# EAGLE library part 658807713100 (library Wurth_Connectors_WR-BTB)
WR-BTB 0.80 mm Female Vertical SMT 7.75 Receptacle w. Chamfer KIND PROPERTIES: Pitch 0.8 mm Quality Class 30 Mating cycles MATERIAL PROPERTIES: Insulator Material LCP Insulator Flammability Rating UL94 V-0 Insulator Color Ivory Contact Copper Alloy Contact Plating Selective Gold Contact Type Stamped GENERAL PROPERTIES: Operating Temperature -55 °C up to +85 °C Compliance Lead free / RoHS ELECTRICAL PROPERTIES: Rated Current [1] 0.5 A Working Voltage 50 V (AC) Withstanding Voltage 500 V (AC) Contact Resistance 50 mΩ Insulation Resistance 100 MΩ PACKAGING PROPERTIES: Packaging Tape and Reel with Cap <https://www.we-online.com/catalog/media/o97332v209%20Family_WR-BTB_658807703040.jpg> Details see: https://www.we-online.com/katalog/en/em/BTB_0_80_FEMALE_SMT_VERTICAL_RECEPTACLE_H7_75_W_CHAMFER_658807713XXX Updated by Yingchun,Shan 2019-10-15 2019 (C) Würth Elektronik
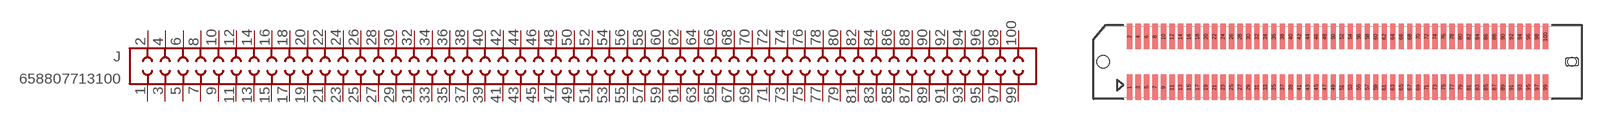
[diagram p6: symbol with the pads of 658807713100; footprint 658807713100]

Designator prefix J

## 658807713100 (DATASHEET-URL: https://www.we-online.com/catalog/datasheet/658807713100.pdf; GENDER: Female Receptacle; IR: 0.5A; PACKAGING: Tape and Reel with Cap; PART-NUMBER: 658807713100; PINS: 100; TYPE: Vertical; VALUE: 658807713100)  [658807713100]
1  1  pas
2  2  pas
3  3  pas
4  4  pas
5  5  pas
6  6  pas
7  7  pas
8  8  pas
9  9  pas
10  10  pas
11  11  pas
12  12  pas
13  13  pas
14  14  pas
15  15  pas
16  16  pas
17  17  pas
18  18  pas
19  19  pas
20  20  pas
21  21  pas
22  22  pas
23  23  pas
24  24  pas
25  25  pas
26  26  pas
27  27  pas
28  28  pas
29  29  pas
30  30  pas
31  31  pas
32  32  pas
33  33  pas
34  34  pas
35  35  pas
36  36  pas
37  37  pas
38  38  pas
39  39  pas
40  40  pas
41  41  pas
42  42  pas
43  43  pas
44  44  pas
45  45  pas
46  46  pas
47  47  pas
48  48  pas
49  49  pas
50  50  pas
51  51  pas
52  52  pas
53  53  pas
54  54  pas
55  55  pas
56  56  pas
57  57  pas
58  58  pas
59  59  pas
60  60  pas
61  61  pas
62  62  pas
63  63  pas
64  64  pas
65  65  pas
66  66  pas
67  67  pas
68  68  pas
69  69  pas
70  70  pas
71  71  pas
72  72  pas
73  73  pas
74  74  pas
75  75  pas
76  76  pas
77  77  pas
78  78  pas
79  79  pas
80  80  pas
81  81  pas
82  82  pas
83  83  pas
84  84  pas
85  85  pas
86  86  pas
87  87  pas
88  88  pas
89  89  pas
90  90  pas
91  91  pas
92  92  pas
93  93  pas
94  94  pas
95  95  pas
96  96  pas
97  97  pas
98  98  pas
99  99  pas
100  100  pas

## Footprint 658807713100 (pad centres in mm)
Con-BTB 0.80 mm Female Vertical SMT 7.75 Receptacle w. Chamfer 100 Pins
smd 0.5 x 2.4: 1 -19.6,-2.4; 2 -19.6,2.4; 3 -18.8,-2.4; 4 -18.8,2.4; 5 -18,-2.4; 6 -18,2.4; 7 -17.2,-2.4; 8 -17.2,2.4; 9 -16.4,-2.4; 10 -16.4,2.4; 11 -15.6,-2.4; 12 -15.6,2.4; 13 -14.8,-2.4; 14 -14.8,2.4; 15 -14,-2.4; 16 -14,2.4; 17 -13.2,-2.4; 18 -13.2,2.4; 19 -12.4,-2.4; 20 -12.4,2.4; 21 -11.6,-2.4; 22 -11.6,2.4; 23 -10.8,-2.4; 24 -10.8,2.4; 25 -10,-2.4; 26 -10,2.4; 27 -9.2,-2.4; 28 -9.2,2.4; 29 -8.4,-2.4; 30 -8.4,2.4; 31 -7.6,-2.4; 32 -7.6,2.4; 33 -6.8,-2.4; 34 -6.8,2.4; 35 -6,-2.4; 36 -6,2.4; 37 -5.2,-2.4; 38 -5.2,2.4; 39 -4.4,-2.4; 40 -4.4,2.4; 41 -3.6,-2.4; 42 -3.6,2.4; 43 -2.8,-2.4; 44 -2.8,2.4; 45 -2,-2.4; 46 -2,2.4; 47 -1.2,-2.4; 48 -1.2,2.4; 49 -0.4,-2.4; 50 -0.4,2.4; 51 0.4,-2.4; 52 0.4,2.4; 53 1.2,-2.4; 54 1.2,2.4; 55 2,-2.4; 56 2,2.4; 57 2.8,-2.4; 58 2.8,2.4; 59 3.6,-2.4; 60 3.6,2.4; 61 4.4,-2.4; 62 4.4,2.4; 63 5.2,-2.4; 64 5.2,2.4; 65 6,-2.4; 66 6,2.4; 67 6.8,-2.4; 68 6.8,2.4; 69 7.6,-2.4; 70 7.6,2.4; 71 8.4,-2.4; 72 8.4,2.4; 73 9.2,-2.4; 74 9.2,2.4; 75 10,-2.4; 76 10,2.4; 77 10.8,-2.4; 78 10.8,2.4; 79 11.6,-2.4; 80 11.6,2.4; 81 12.4,-2.4; 82 12.4,2.4; 83 13.2,-2.4; 84 13.2,2.4; 85 14,-2.4; 86 14,2.4; 87 14.8,-2.4; 88 14.8,2.4; 89 15.6,-2.4; 90 15.6,2.4; 91 16.4,-2.4; 92 16.4,2.4; 93 17.2,-2.4; 94 17.2,2.4; 95 18,-2.4; 96 18,2.4; 97 18.8,-2.4; 98 18.8,2.4; 99 19.6,-2.4; 100 19.6,2.4
hole 1.2 at -22.1,0
hole 0.8 at 22.1,0